# Altium schematic symbol library Drivers (IX44).SchLib: 1 symbol
Pins are listed as number, name and electrical type; pins without a type are passive.

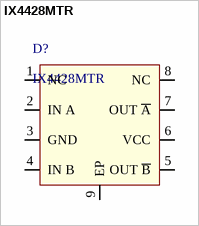
[diagram p0: symbol IX4428MTR]

## IX4428MTR
designator D?
low-side MOSFET driver; Operating Voltage Range: 4.5V to 35V; Peak Output Current: 1.5A; Supply Voltage: -0.3 to 35 V; Operating Temperature Range: -40 to +125 °C
footprint DFN_8
pins: 1 NC, 2 IN A, 3 GND, 4 IN B, 5 OUT ~{B}, 6 VCC, 7 OUT ~{A}, 8 NC, 9 EP